# Altium schematic symbol library Thermocouple_connector.SchLib: 1 symbol
Pins are listed as number, name and electrical type; pins without a type are passive.

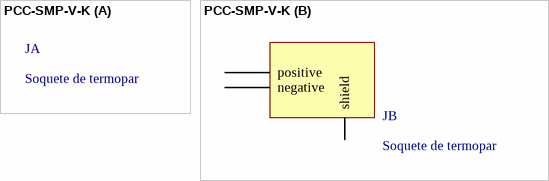
[diagram p0: symbol PCC-SMP-V-K]

## PCC-SMP-V-K
designator J, comment Soquete de termopar
Soquete de termopar especial PCCS para placa de circuito em série; ComponentLink1Description: Datasheet; ComponentLink1URL: https://assets.omega.com/spec/PCC-OST-SMP_spec.pdf
footprint PCC-SMP-V-K (Soquete de termopar especial PCCS para placa de circuito em série)
part B pins: 1 negative, 2 positive, 3 shield